# EAGLE library part SN74LVC1G123DCUR (library BQ25504)
Monostable Multivibrator
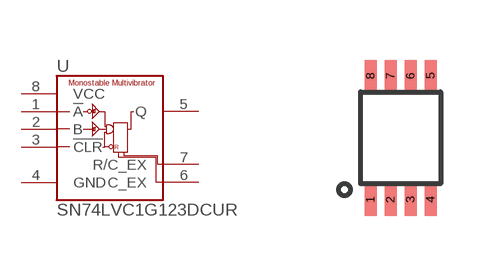
[diagram p52: symbol with the pads of VFSOP-8; footprint VFSOP-8]

Designator prefix U

## SN74LVC1G123DCUR (DIGIKEY: 296-18578-1-ND)  [VFSOP-8]
1  !A
2  B
3  !CLR
4  GND
5  Q
6  C_EX
7  R/C_EX
8  VCC

## Footprint VFSOP-8 (pad centres in mm)
smd 0.3 x 0.8: 1 -0.75,-1.55; 2 -0.25,-1.55; 3 0.25,-1.55; 4 0.75,-1.55; 5 0.75,1.55; 6 0.25,1.55; 7 -0.25,1.55; 8 -0.75,1.55